# Altium schematic symbol library RF IC.SchLib: 2 symbols
Pins are listed as number, name and electrical type; pins without a type are passive.

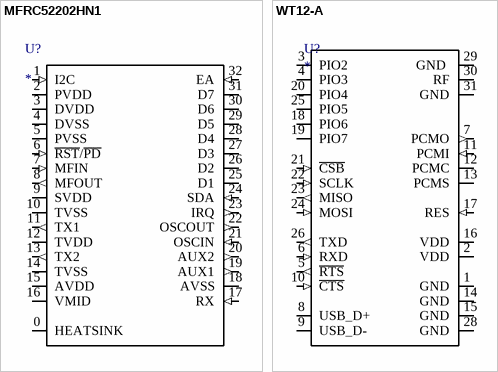
[diagram p0: symbols MFRC52202HN1 to WT12-A]

## MFRC52202HN1
designator U?
pins: 0 HEATSINK (power), 1 I2C (in), 2 PVDD (power), 3 DVDD (power), 4 DVSS (power), 5 PVSS (power), 6 ~{RST}/~{PD} (in), 7 MFIN (in), 8 MFOUT (out), 9 SVDD (power), 10 TVSS (power), 11 TX1 (out), 12 TVDD (power), 13 TX2 (out), 14 TVSS (power), 15 AVDD (power), 16 VMID (power), 17 RX (in), 18 AVSS (power), 19 AUX1 (out), 20 AUX2 (out), 21 OSCIN (in), 22 OSCOUT (out), 23 IRQ (out), 24 SDA (in), 25 D1 (io), 26 D2 (io), 27 D3 (io), 28 D4 (io), 29 D5 (io), 30 D6 (io), 31 D7 (io), 32 EA (in)

## WT12-A
designator U?
Name: *
pins: 1 GND (power), 2 VDD (power), 3 PIO2 (io), 4 PIO3 (io), 5 ~{RTS} (out), 6 RXD (in), 7 PCMO (out), 8 USB_D+ (io), 9 USB_D- (io), 10 ~{CTS} (in), 11 PCMI (in), 12 PCMC (io), 13 PCMS (io), 14 GND (power), 15 GND (power), 16 VDD (power), 17 RES (in), 18 PIO6 (io), 19 PIO7 (io), 20 PIO4 (io), 21 ~{CSB} (in), 22 SCLK (in), 23 MISO (out), 24 MOSI (in), 25 PIO5 (io), 26 TXD (out), 28 GND (power), 29 GND  (power), 30 RF (io), 31 GND (power)